# EAGLE library part ARDUINO_UNO_IO_INCL_ICSP (library BERGCloud-OSH)
Arduino <http://arduino.cc> shield IO pins for R3 Uno boards/Leonardo including ICSP headers for SPI to enable MEGA usage. Created by AH. BERG Cloud <http://www.bergcloud.com>
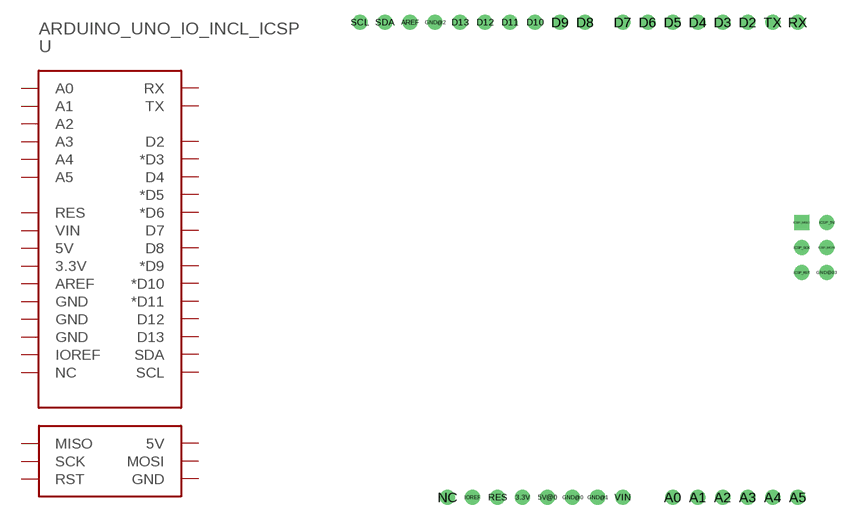
[diagram p3: symbol with the pads of ARDUINO_UNO_ICSP; footprint ARDUINO_UNO_ICSP]

Designator prefix -

## ARDUINO_UNO_IO_INCL_ICSP  [ARDUINO_UNO_ICSP]
3.3V  3.3V
5V@0  5V
A0  A0
A1  A1
A2  A2
A3  A3
A4  A4
A5  A5
AREF  AREF
D2  D2
D3  *D3
D4  D4
D5  *D5
D6  *D6
D7  D7
D8  D8
D9  *D9
D10  *D10
D11  *D11
D12  D12
D13  D13
GND@0  GND
GND@1  GND
GND@2  GND
GND@03  GND
ICSP_5V  5V
ICSP_MISO  MISO
ICSP_MOSI  MOSI
ICSP_RST  RST
ICSP_SCK  SCK
IOREF  IOREF
NC  NC
RES  RES
RX  RX
SCL  SCL
SDA  SDA
TX  TX
VIN  VIN

## Footprint ARDUINO_UNO_ICSP (pad centres in mm)
drill 1.016: 3.3V 16.51,-48.26; 5V@0 19.05,-48.26; A0 31.75,-48.26; A1 34.29,-48.26; A2 36.83,-48.26; A3 39.37,-48.26; A4 41.91,-48.26; A5 44.45,-48.26; AREF 5.08,0; D2 39.37,0; D3 36.83,0; D4 34.29,0; D5 31.75,0; D6 29.21,0; D7 26.67,0; D8 22.86,0; D9 20.32,0; D10 17.78,0; D11 15.24,0; D12 12.7,0; D13 10.16,0; GND@0 21.59,-48.26; GND@1 24.13,-48.26; GND@2 7.62,0; GND@03 47.384,-25.44; ICSP_5V 47.384,-20.36; ICSP_MOSI 47.384,-22.9; ICSP_RST 44.844,-25.44; ICSP_SCK 44.844,-22.9; IOREF 11.43,-48.26; NC 8.89,-48.26; RES 13.97,-48.26; RX 44.45,0; SCL 0,0; SDA 2.54,0; TX 41.91,0; VIN 26.67,-48.26
drill 1.016 square: ICSP_MISO 44.844,-20.36